# Altium footprint library ABM8-40.000MHZ-10-1-U-T.PcbLib: 1 footprints
Each footprint in its own frame and in the unit in brackets; x right, y up, seen from the top. Pads: shape width x height; smd on the part's side, far side on the other; paste and mask are expansions set on the pad; w line width, h text height; cw(c..) or ccw(c..) is an arc to the next point about the centre after c.
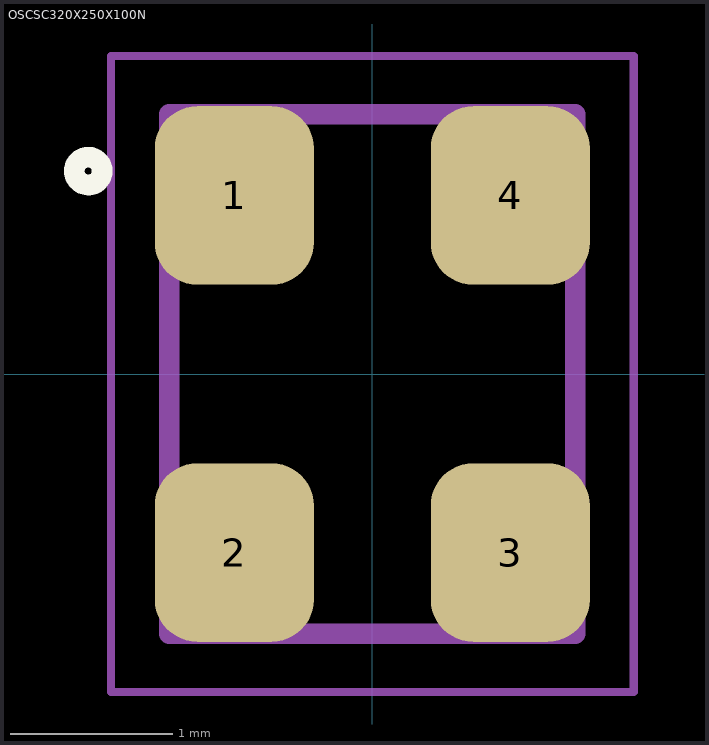
[diagram p0: the footprint, top view; thin cyan lines are the x and y axes]

## OSCSC320X250X100N [mm]
pads (4):
  rrect53% 0.98x1.1 smd: 1(-0.85,1.1) 2(-0.85,-1.1) 3(0.85,-1.1) 4(0.85,1.1)
Top Overlay:
  circle w0.127: c-1.75,1.25 r0.086
Mechanical 13:
  lines w0.127: -1.25,-1.6 -1.25,1.6 1.25,1.6 1.25,-1.6 -1.25,-1.6
Mechanical 15:
  lines w0.05: -1.61,-1.96 -1.61,1.96 1.61,1.96 1.61,-1.96 -1.61,-1.96
3D body "step_temp.STEP": height 1, standoff 0, extent -1.6,-1.25 1.6,1.25